# Altium schematic symbol library AG.Fuse.SchLib: 1 symbol
Pins are listed as number, name and electrical type; pins without a type are passive.

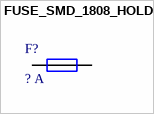
[diagram p0: symbol FUSE_SMD_1808_HOLDER]

## FUSE_SMD_1808_HOLDER
designator F?, comment ? A
Fuse Holder SMD 1808; Manufacturer: Generic Brand; Category: Fuse; Mounting Technology: SMT; Supplier Link: http://; Hold Current: ? A
footprint FUSE_0154004.DR
pins: 1, 2